# EAGLE library part BLE112 (library RF_Wireless)
Bluetooth low energy single mode module Datasheet <https://www.silabs.com/documents/public/data-sheets/BLE112-DataSheet.pdf>
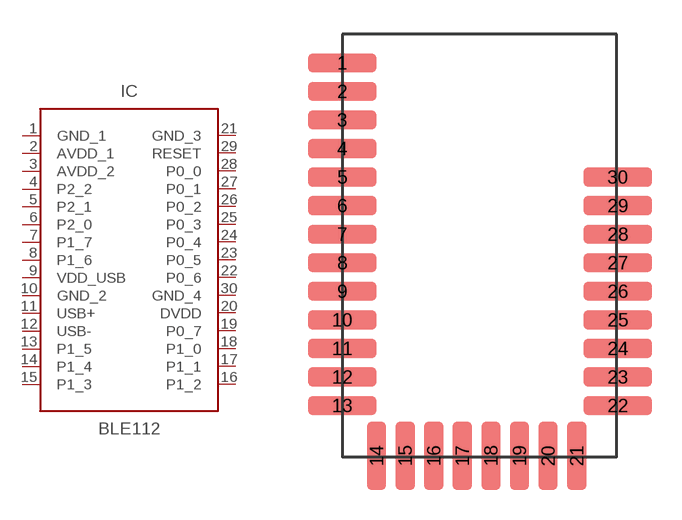
[diagram p1: symbol with the pads of QFN125P1205X1810X230-30N; footprint QFN125P1205X1810X230-30N]

Designator prefix IC

## BLE112-A (CATEGORY: Bluetooth Modules (802.15.1); DESCRIPTION: Bluetooth Modules (802.15.1) Class2 BLE Module 4.0 SINGLEMODE W/ANT; MANUFACTURER: Silicon Labs; MPN: BLE112-A-V1; OPERATING_TEMPERATURE: -40 C to 85 C; ROHS_COMPLIANT: COMPLIANT; SERIES: BLE112; SUB_CATEGORY: Wireless & RF Modules; TYPE: Bluetooth Modules; VALUE: BLE112)  [QFN125P1205X1810X230-30N]
1  GND_1
2  AVDD_1
3  AVDD_2
4  P2_2
5  P2_1
6  P2_0
7  P1_7
8  P1_6
9  VDD_USB
10  GND_2
11  USB+
12  USB-
13  P1_5
14  P1_4
15  P1_3
16  P1_2
17  P1_1
18  P1_0
19  P0_7
20  DVDD  pwr
21  GND_3
22  P0_6
23  P0_5
24  P0_4
25  P0_3
26  P0_2
27  P0_1
28  P0_0
29  RESET
30  GND_4

## Footprint QFN125P1205X1810X230-30N (pad centres in mm)
smd 3 x 0.85: 1 -6.35,7.62; 2 -6.35,6.37; 3 -6.35,5.12; 4 -6.35,3.87; 5 -6.35,2.62; 6 -6.35,1.37; 7 -6.35,0.12; 8 -6.35,-1.13; 9 -6.35,-2.38; 10 -6.35,-3.63; 11 -6.35,-4.88; 12 -6.35,-6.13; 13 -6.35,-7.38; 22 5.7,-7.38; 23 5.7,-6.13; 24 5.7,-4.88; 25 5.7,-3.63; 26 5.7,-2.38; 27 5.7,-1.13; 28 5.7,0.12; 29 5.7,1.37; 30 5.7,2.62
smd 0.85 x 3: 14 -4.85,-9.58; 15 -3.6,-9.58; 16 -2.35,-9.58; 17 -1.1,-9.58; 18 0.15,-9.58; 19 1.4,-9.58; 20 2.65,-9.58; 21 3.9,-9.58